# EAGLE library part CTRL (library TinyNES_Library)
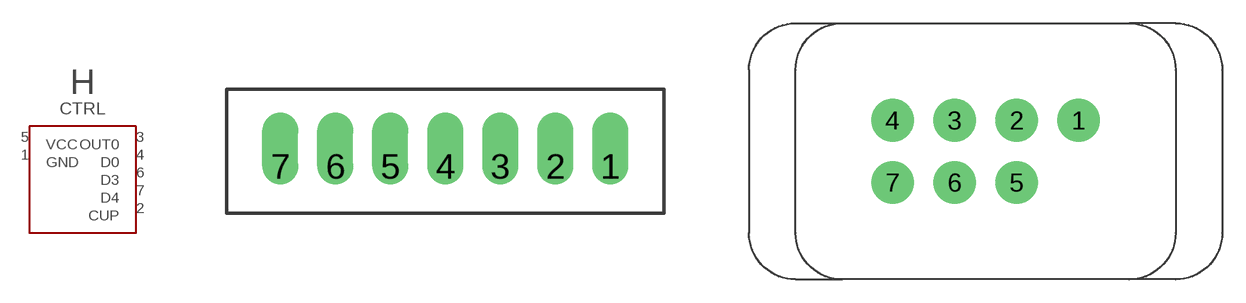
[diagram p4: symbol with the pads of JST-PH-7; footprints JST-PH-7, NES-CTRL]

Designator prefix H

## CTRL  [JST-PH-7]
1  GND
2  CUP
3  OUT0
4  D0
5  VCC
6  D3
7  D4

## CTRL-NES  [NES-CTRL]
Pads as for JST-PH-7

## Footprint JST-PH-7 (pad centres in mm)
drill 0.8 pad 1.2 offset: 1 6,0; 2 4,0; 3 2,0; 4 0,0; 5 -2,0; 6 -4,0; 7 -6,0

## Footprint NES-CTRL (pad centres in mm)
drill 1.5 pad 2.75: 1 6,2; 2 2,2; 3 -2,2; 4 -6,2; 5 2,-2; 6 -2,-2; 7 -6,-2